# Altium schematic symbol library A_HDJ_Library.SchLib: 4 symbols
Pins are listed as number, name and electrical type; pins without a type are passive.

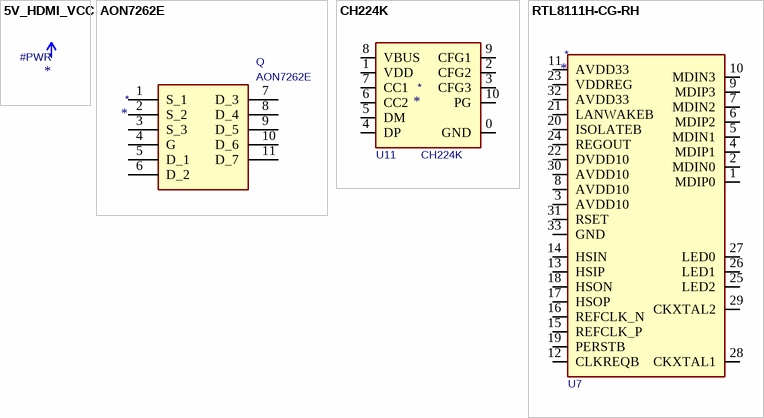
[diagram p0: symbols 5V_HDMI_VCC to RTL8111H-CG-RH]

## 5V_HDMI_VCC
designator *  Reference: #PWR
Value: 5V_HDMI_VCC
pins: 1 5V_HDMI_VCC hidden

## AON7262E
designator *  value AON7262E  Reference: Q
N-Channel 60 V 21A (Ta), 34A (Tc) 5W (Ta), 43W (Tc) Surface Mount 8-DFN-EP (3x3); Footprint: AON7262E; Datasheet: https://datasheet.lcsc.com/szlcsc/Alpha-Omega-Semicon-AOS-AON7262E_C176755.pdf; Description_: N-Channel 60 V 21A (Ta), 34A (Tc) 5W (Ta), 43W (Tc) Surface Mount 8-DFN-EP (3x3)
pins: 1 S_1, 2 S_2, 3 S_3, 4 G, 5 D_1, 6 D_2, 7 D_3, 8 D_4, 9 D_5, 10 D_6, 11 D_7

## CH224K
designator *  Reference: U11  ALTIUM_UNNAMED_1: CH224K
Value: USB PD等快充协议受电芯片-CH224K-ESSOP10; ki_fp_filters: ESSOP10; Footprint: ESSOP10; HELPURL: https://item.szlcsc.com/1060460.html
pins: 0 GND, 1 VDD, 2 CFG2, 3 CFG3, 4 DP, 5 DM, 6 CC2, 7 CC1, 8 VBUS, 9 CFG1, 10 PG

## RTL8111H-CG-RH
designator *  Reference: U7
Value: RTL8111H-CG-RH; ki_fp_filters: RTL8111H_QFN32; Footprint: Package_DFN_QFN:QFN-32-1EP_4x4mm_P0.4mm_EP2.65x2.65mm
pins: 1 MDIP0, 2 MDIN0, 3 AVDD10, 4 MDIP1, 5 MDIN1, 6 MDIP2, 7 MDIN2, 8 AVDD10, 9 MDIP3, 10 MDIN3, 11 AVDD33, 12 CLKREQB, 13 HSIP, 14 HSIN, 15 REFCLK_P, 16 REFCLK_N, 17 HSOP, 18 HSON, 19 PERSTB, 20 ISOLATEB, 21 LANWAKEB, 22 DVDD10, 23 VDDREG, 24 REGOUT, 25 LED2, 26 LED1, 27 LED0, 28 CKXTAL1, 29 CKXTAL2, 30 AVDD10, 31 RSET, 32 AVDD33, 33 GND